# Altium integrated library Capacitors - Aluminum - Electrolytic SMT.IntLib: 1988 symbols (part 3 of 50)
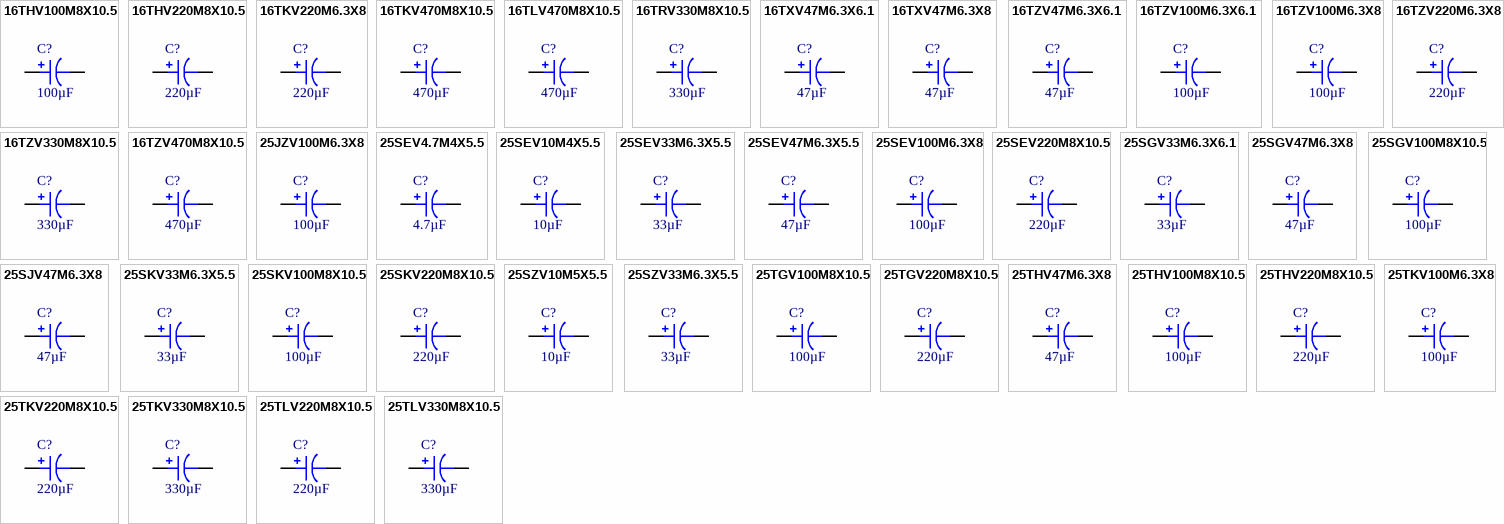
[diagram p51: symbols 16THV100M8X10.5 to 25TLV330M8X10.5]

## 16THV220M8X10.5
designator C?, comment 220µF
CAP ALUM 220UF 20% 16V SMD; Part Number: 16THV220M8X10.5; Manufacturer: Rubycon; ESR (Equivalent Series Resistance): 300mOhm @ 100kHz; Lifetime @ Temp.: 3000 Hrs @ 125°C; Polarization: Polar; Ripple Current @ High Frequency: 300mA @ 100kHz; Ripple Current @ Low Frequency: 180mA @ 120Hz; Surface Mount Land Size: 0.327" L x 0.327" W (8.30mm x 8.30mm); Applications: Automotive; Capacitance: 220µF; ComponentLink1Description: Datasheet; ComponentLink1URL: http://www.rubycon.co.jp/en/catalog/e_pdfs/aluminum/e_THV.pdf; ComponentLink2Description: DigiKey Link; ComponentLink2URL: http://digikey.com/product-detail/en/rubycon/16THV220M8X10.5/1189-4095-1-ND/9083624; Device Package: Radial, Can - SMD; Height - Seated (Max): 0.413" (10.50mm); LastUpdated: 9/2/2020 1:25:13 AM; Lifecycle Status: Active; Minimum Order: 1; Mounting Type: Surface Mount; Operating Temperature: -40°C ~ 125°C; Package / Case: Radial, Can - SMD; Packaging: TapeAndReel; PartId: 7808; Part Status: Active; Price: 0.32; Ratings: AEC-Q200; Series: THV; Size / Dimension: 0.315" Dia (8.00mm); Supplier 1: DigiKey; Supplier Part Number 1: 1189-4095-1-ND; Tolerance: ±20%; Value: 220µF; Voltage - Rated: 16V
footprint CAP ALSMD 8.3MM H10.5MM
pins: 1, 2

## 16TKV220M6.3X8
designator C?, comment 220µF
CAP ALUM 220UF 20% 16V SMD; Part Number: 16TKV220M6.3X8; Manufacturer: Rubycon; ESR (Equivalent Series Resistance): 160 mohm @ 100kHz; Lifetime @ Temp.: 2000 Hrs @ 105°C; Polarization: Polar; Ripple Current @ High Frequency: 600mA @ 100kHz; Ripple Current @ Low Frequency: 360mA @ 120Hz; Surface Mount Land Size: 0.260" L x 0.260" W (6.60mm x 6.60mm); Applications: Automotive; Capacitance: 220µF; ComponentLink1Description: Datasheet; ComponentLink1URL: http://www.rubycon.co.jp/en/catalog/e_pdfs/aluminum/e_TKV.pdf; ComponentLink2Description: DigiKey Link; ComponentLink2URL: http://digikey.com/product-detail/en/rubycon/16TKV220M6.3X8/1189-4097-1-ND/9083626; Device Package: Radial, Can - SMD; Height - Seated (Max): 0.315" (8.00mm); LastUpdated: 9/2/2020 1:25:37 AM; Lifecycle Status: Active; Minimum Order: 1; Mounting Type: Surface Mount; Operating Temperature: -55°C ~ 105°C; Package / Case: Radial, Can - SMD; Packaging: TapeAndReel; PartId: 8517; Part Status: Active; Price: 0.23; Ratings: AEC-Q200; Series: TKV; Size / Dimension: 0.248" Dia (6.30mm); Supplier 1: DigiKey; Supplier Part Number 1: 1189-4097-1-ND; Tolerance: ±20%; Value: 220µF; Voltage - Rated: 16V
footprint CAP ALSMD 6.6MM H8.0MM
pins: 1, 2

## 16TKV470M8X10.5
designator C?, comment 470µF
CAP ALUM 470UF 20% 16V SMD; Part Number: 16TKV470M8X10.5; Manufacturer: Rubycon; ESR (Equivalent Series Resistance): 80mOhm @ 100kHz; Lifetime @ Temp.: 2000 Hrs @ 105°C; Polarization: Polar; Ripple Current @ High Frequency: 850mA @ 100kHz; Ripple Current @ Low Frequency: 510mA @ 120Hz; Surface Mount Land Size: 0.327" L x 0.327" W (8.30mm x 8.30mm); Applications: Automotive; Capacitance: 470µF; ComponentLink1Description: Datasheet; ComponentLink1URL: http://www.rubycon.co.jp/en/catalog/e_pdfs/aluminum/e_TKV.pdf; ComponentLink2Description: DigiKey Link; ComponentLink2URL: http://digikey.com/product-detail/en/rubycon/16TKV470M8X10.5/1189-2067-1-ND/3986986; Device Package: Radial, Can - SMD; Height - Seated (Max): 0.413" (10.50mm); LastUpdated: 9/2/2020 1:25:16 AM; Lifecycle Status: Active; Minimum Order: 1; Mounting Type: Surface Mount; Operating Temperature: -55°C ~ 105°C; Package / Case: Radial, Can - SMD; Packaging: TapeAndReel; PartId: 7478; Part Status: Active; Price: 0.36; Ratings: AEC-Q200; Series: TKV; Size / Dimension: 0.315" Dia (8.00mm); Supplier 1: DigiKey; Supplier Part Number 1: 1189-2067-1-ND; Tolerance: ±20%; Value: 470µF; Voltage - Rated: 16V
footprint CAP ALSMD 8.3MM H10.5MM
pins: 1, 2

## 16TLV470M8X10.5
designator C?, comment 470µF
CAP ALUM 470UF 20% 16V SMD; Part Number: 16TLV470M8X10.5; Manufacturer: Rubycon; Impedance: 160 mOhms; Lifetime @ Temp.: 5000 Hrs @ 105°C; Polarization: Polar; Ripple Current @ High Frequency: 600mA @ 100kHz; Ripple Current @ Low Frequency: 360mA @ 120Hz; Surface Mount Land Size: 0.327" L x 0.327" W (8.30mm x 8.30mm); Applications: Automotive; Capacitance: 470µF; ComponentLink1Description: Datasheet; ComponentLink1URL: http://www.rubycon.co.jp/en/catalog/e_pdfs/aluminum/e_TLV.pdf; ComponentLink2Description: DigiKey Link; ComponentLink2URL: http://digikey.com/product-detail/en/rubycon/16TLV470M8X10.5/1189-2089-1-ND/3987008; Device Package: Radial, Can - SMD; Height - Seated (Max): 0.413" (10.50mm); LastUpdated: 9/2/2020 1:25:15 AM; Lifecycle Status: Active; Minimum Order: 1; Mounting Type: Surface Mount; Operating Temperature: -55°C ~ 105°C; Package / Case: Radial, Can - SMD; Packaging: TapeAndReel; PartId: 7618; Part Status: Active; Price: 0.26; Ratings: AEC-Q200; Series: TLV; Size / Dimension: 0.315" Dia (8.00mm); Supplier 1: DigiKey; Supplier Part Number 1: 1189-2089-1-ND; Tolerance: ±20%; Value: 470µF; Voltage - Rated: 16V
footprint CAP ALSMD 8.3MM H10.5MM
pins: 1, 2

## 16TRV330M8X10.5
designator C?, comment 330µF
CAP ALUM 330UF 20% 16V SMD; Part Number: 16TRV330M8X10.5; Manufacturer: Rubycon; Impedance: 150 mOhms; Lifetime @ Temp.: 8000 Hrs @ 105°C; Polarization: Polar; Ripple Current @ High Frequency: 600mA @ 100kHz; Ripple Current @ Low Frequency: 360mA @ 120Hz; Surface Mount Land Size: 0.327" L x 0.327" W (8.30mm x 8.30mm); Applications: General Purpose; Capacitance: 330µF; ComponentLink1Description: Datasheet; ComponentLink1URL: http://www.rubycon.co.jp/en/catalog/e_pdfs/aluminum/e_TRV.pdf; ComponentLink2Description: DigiKey Link; ComponentLink2URL: http://digikey.com/product-detail/en/rubycon/16TRV330M8X10.5/1189-3537-1-ND/6050527; Device Package: Radial, Can - SMD; Height - Seated (Max): 0.413" (10.50mm); LastUpdated: 9/2/2020 1:25:13 AM; Lifecycle Status: Active; Minimum Order: 1; Mounting Type: Surface Mount; Operating Temperature: -40°C ~ 105°C; Package / Case: Radial, Can - SMD; Packaging: TapeAndReel; PartId: 7733; Part Status: Active; Price: 0.29; Series: TRV; Size / Dimension: 0.315" Dia (8.00mm); Supplier 1: DigiKey; Supplier Part Number 1: 1189-3537-1-ND; Tolerance: ±20%; Value: 330µF; Voltage - Rated: 16V
footprint CAP ALSMD 8.3MM H10.5MM
pins: 1, 2

## 16TXV47M6.3X6.1
designator C?, comment 47µF
CAP ALUM 47UF 20% 16V SMD; Part Number: 16TXV47M6.3X6.1; Manufacturer: Rubycon; ESR (Equivalent Series Resistance): 1Ohm; Lifetime @ Temp.: 1000 Hrs @ 125°C; Ripple Current @ Low Frequency: 35mA @ 120Hz; Surface Mount Land Size: 0.260" L x 0.260" W (6.60mm x 6.60mm); Applications: Automotive; Capacitance: 47µF; ComponentLink1Description: Datasheet; ComponentLink1URL: http://www.rubycon.co.jp/en/catalog/e_pdfs/aluminum/e_txv.pdf; ComponentLink2Description: DigiKey Link; ComponentLink2URL: http://digikey.com/product-detail/en/rubycon/16TXV47M6.3X6.1/1189-2115-1-ND/3987034; Device Package: Radial, Can - SMD; Height - Seated (Max): 0.240" (6.10mm); LastUpdated: 9/2/2020 1:25:27 AM; Lifecycle Status: Active; Minimum Order: 1; Mounting Type: Surface Mount; Operating Temperature: -40°C ~ 125°C; Package / Case: Radial, Can - SMD; Packaging: TapeAndReel; PartId: 8100; Part Status: Active; Price: 0.15; Ratings: AEC-Q200; Series: TXV; Size / Dimension: 0.248" Dia (6.30mm); Supplier 1: DigiKey; Supplier Part Number 1: 1189-2115-1-ND; Tolerance: ±20%; Value: 47µF; Voltage - Rated: 16V
footprint CAP ALSMD 6.6MM H6.1MM
pins: 1, 2

## 16TXV47M6.3X8
designator C?, comment 47µF
CAP ALUM 47UF 20% 16V SMD; Part Number: 16TXV47M6.3X8; Manufacturer: Rubycon; ESR (Equivalent Series Resistance): 300mOhm; Lifetime @ Temp.: 1000 Hrs @ 125°C; Ripple Current @ High Frequency: 140mA @ 100kHz; Ripple Current @ Low Frequency: 70mA @ 120Hz; Surface Mount Land Size: 0.260" L x 0.260" W (6.60mm x 6.60mm); Applications: Automotive; Capacitance: 47µF; ComponentLink1Description: Datasheet; ComponentLink1URL: http://www.rubycon.co.jp/en/catalog/e_pdfs/aluminum/e_txv.pdf; ComponentLink2Description: DigiKey Link; ComponentLink2URL: http://digikey.com/product-detail/en/rubycon/16TXV47M6.3X8/1189-2116-1-ND/3987035; Device Package: Radial, Can - SMD; Height - Seated (Max): 0.315" (8.00mm); LastUpdated: 9/2/2020 1:25:38 AM; Lifecycle Status: Active; Minimum Order: 1; Mounting Type: Surface Mount; Operating Temperature: -40°C ~ 125°C; Package / Case: Radial, Can - SMD; Packaging: TapeAndReel; PartId: 8368; Part Status: Active; Price: 0.17; Ratings: AEC-Q200; Series: TXV; Size / Dimension: 0.248" Dia (6.30mm); Supplier 1: DigiKey; Supplier Part Number 1: 1189-2116-1-ND; Tolerance: ±20%; Value: 47µF; Voltage - Rated: 16V
footprint CAP ALSMD 6.6MM H8.0MM
pins: 1, 2

## 16TZV47M6.3X6.1
designator C?, comment 47µF
CAP ALUM 47UF 20% 16V SMD; Part Number: 16TZV47M6.3X6.1; Manufacturer: Rubycon; Impedance: 360 mOhms; Lifetime @ Temp.: 2000 Hrs @ 105°C; Polarization: Polar; Ripple Current @ High Frequency: 250mA @ 100kHz; Ripple Current @ Low Frequency: 80mA @ 120Hz; Surface Mount Land Size: 0.260" L x 0.260" W (6.60mm x 6.60mm); Applications: Automotive; Capacitance: 47µF; ComponentLink1Description: Datasheet; ComponentLink1URL: http://www.rubycon.co.jp/en/catalog/e_pdfs/aluminum/e_tzv.pdf; ComponentLink2Description: DigiKey Link; ComponentLink2URL: http://digikey.com/product-detail/en/rubycon/16TZV47M6.3X6.1/1189-1132-1-ND/3488241; Device Package: Radial, Can - SMD; Height - Seated (Max): 0.240" (6.10mm); LastUpdated: 9/2/2020 1:25:28 AM; Lifecycle Status: Active; Minimum Order: 1; Mounting Type: Surface Mount; Operating Temperature: -55°C ~ 105°C; Package / Case: Radial, Can - SMD; Packaging: TapeAndReel; PartId: 8027; Part Status: Active; Price: 0.11; Ratings: AEC-Q200; Series: TZV; Size / Dimension: 0.248" Dia (6.30mm); Supplier 1: DigiKey; Supplier Part Number 1: 1189-1132-1-ND; Tolerance: ±20%; Value: 47µF; Voltage - Rated: 16V
footprint CAP ALSMD 6.6MM H6.1MM
pins: 1, 2

## 16TZV100M6.3X6.1
designator C?, comment 100µF
CAP ALUM 100UF 20% 16V SMD; Part Number: 16TZV100M6.3X6.1; Manufacturer: Rubycon; Impedance: 360 mOhms; Lifetime @ Temp.: 2000 Hrs @ 105°C; Polarization: Polar; Ripple Current @ High Frequency: 250mA @ 100kHz; Ripple Current @ Low Frequency: 125mA @ 120Hz; Surface Mount Land Size: 0.260" L x 0.260" W (6.60mm x 6.60mm); Applications: Automotive; Capacitance: 100µF; ComponentLink1Description: Datasheet; ComponentLink1URL: http://www.rubycon.co.jp/en/catalog/e_pdfs/aluminum/e_tzv.pdf; ComponentLink2Description: DigiKey Link; ComponentLink2URL: http://digikey.com/product-detail/en/rubycon/16TZV100M6.3X6.1/1189-1536-1-ND/3134492; Device Package: Radial, Can - SMD; Height - Seated (Max): 0.240" (6.10mm); LastUpdated: 9/2/2020 1:25:26 AM; Lifecycle Status: Active; Minimum Order: 1; Mounting Type: Surface Mount; Operating Temperature: -55°C ~ 105°C; Package / Case: Radial, Can - SMD; Packaging: TapeAndReel; PartId: 8142; Part Status: Active; Price: 0.11; Ratings: AEC-Q200; Series: TZV; Size / Dimension: 0.248" Dia (6.30mm); Supplier 1: DigiKey; Supplier Part Number 1: 1189-1536-1-ND; Tolerance: ±20%; Value: 100µF; Voltage - Rated: 16V
footprint CAP ALSMD 6.6MM H6.1MM
pins: 1, 2

## 16TZV100M6.3X8
designator C?, comment 100µF
CAP ALUM 100UF 20% 16V SMD; Part Number: 16TZV100M6.3X8; Manufacturer: Rubycon; Impedance: 340 mOhms; Lifetime @ Temp.: 2000 Hrs @ 105°C; Polarization: Polar; Ripple Current @ High Frequency: 300mA @ 100kHz; Ripple Current @ Low Frequency: 150mA @ 120Hz; Surface Mount Land Size: 0.260" L x 0.260" W (6.60mm x 6.60mm); Applications: Automotive; Capacitance: 100µF; ComponentLink1Description: Datasheet; ComponentLink1URL: http://www.rubycon.co.jp/en/catalog/e_pdfs/aluminum/e_tzv.pdf; ComponentLink2Description: DigiKey Link; ComponentLink2URL: http://digikey.com/product-detail/en/rubycon/16TZV100M6.3X8/1189-2423-1-ND/4842327; Device Package: Radial, Can - SMD; Height - Seated (Max): 0.315" (8.00mm); LastUpdated: 9/2/2020 1:25:38 AM; Lifecycle Status: Active; Minimum Order: 1; Mounting Type: Surface Mount; Operating Temperature: -55°C ~ 105°C; Package / Case: Radial, Can - SMD; Packaging: TapeAndReel; PartId: 8420; Part Status: Active; Price: 0.13; Ratings: AEC-Q200; Series: TZV; Size / Dimension: 0.248" Dia (6.30mm); Supplier 1: DigiKey; Supplier Part Number 1: 1189-2423-1-ND; Tolerance: ±20%; Value: 100µF; Voltage - Rated: 16V
footprint CAP ALSMD 6.6MM H8.0MM
pins: 1, 2

## 16TZV220M6.3X8
designator C?, comment 220µF
CAP ALUM 220UF 20% 16V SMD; Part Number: 16TZV220M6.3X8; Manufacturer: Rubycon; Impedance: 340 mOhms; Lifetime @ Temp.: 2000 Hrs @ 105°C; Polarization: Polar; Ripple Current @ High Frequency: 300mA @ 100kHz; Ripple Current @ Low Frequency: 180mA @ 120Hz; Surface Mount Land Size: 0.260" L x 0.260" W (6.60mm x 6.60mm); Applications: Automotive; Capacitance: 220µF; ComponentLink1Description: Datasheet; ComponentLink1URL: http://www.rubycon.co.jp/en/catalog/e_pdfs/aluminum/e_tzv.pdf; ComponentLink2Description: DigiKey Link; ComponentLink2URL: http://digikey.com/product-detail/en/rubycon/16TZV220M6.3X8/1189-1538-1-ND/3134494; Device Package: Radial, Can - SMD; Height - Seated (Max): 0.315" (8.00mm); LastUpdated: 9/2/2020 1:25:39 AM; Lifecycle Status: Active; Minimum Order: 1; Mounting Type: Surface Mount; Operating Temperature: -55°C ~ 105°C; Package / Case: Radial, Can - SMD; Packaging: TapeAndReel; PartId: 8341; Part Status: Active; Price: 0.14; Ratings: AEC-Q200; Series: TZV; Size / Dimension: 0.248" Dia (6.30mm); Supplier 1: DigiKey; Supplier Part Number 1: 1189-1538-1-ND; Tolerance: ±20%; Value: 220µF; Voltage - Rated: 16V
footprint CAP ALSMD 6.6MM H8.0MM
pins: 1, 2

## 16TZV330M8X10.5
designator C?, comment 330µF
CAP ALUM 330UF 20% 16V SMD; Part Number: 16TZV330M8X10.5; Manufacturer: Rubycon; Impedance: 160 mOhms; Lifetime @ Temp.: 2000 Hrs @ 105°C; Polarization: Polar; Ripple Current @ High Frequency: 600mA @ 100kHz; Ripple Current @ Low Frequency: 360mA @ 120Hz; Surface Mount Land Size: 0.327" L x 0.327" W (8.30mm x 8.30mm); Applications: Automotive; Capacitance: 330µF; ComponentLink1Description: Datasheet; ComponentLink1URL: http://www.rubycon.co.jp/en/catalog/e_pdfs/aluminum/e_tzv.pdf; ComponentLink2Description: DigiKey Link; ComponentLink2URL: http://digikey.com/product-detail/en/rubycon/16TZV330M8X10.5/1189-1541-1-ND/3134497; Device Package: Radial, Can - SMD; Height - Seated (Max): 0.413" (10.50mm); LastUpdated: 9/2/2020 1:25:14 AM; Lifecycle Status: Active; Minimum Order: 1; Mounting Type: Surface Mount; Operating Temperature: -55°C ~ 105°C; Package / Case: Radial, Can - SMD; Packaging: TapeAndReel; PartId: 7652; Part Status: Active; Price: 0.21; Ratings: AEC-Q200; Series: TZV; Size / Dimension: 0.315" Dia (8.00mm); Supplier 1: DigiKey; Supplier Part Number 1: 1189-1541-1-ND; Tolerance: ±20%; Value: 330µF; Voltage - Rated: 16V
footprint CAP ALSMD 8.3MM H10.5MM
pins: 1, 2

## 16TZV470M8X10.5
designator C?, comment 470µF
CAP ALUM 470UF 20% 16V SMD; Part Number: 16TZV470M8X10.5; Manufacturer: Rubycon; Impedance: 160 mOhms; Lifetime @ Temp.: 2000 Hrs @ 105°C; Polarization: Polar; Ripple Current @ High Frequency: 600mA @ 100kHz; Ripple Current @ Low Frequency: 360mA @ 120Hz; Surface Mount Land Size: 0.327" L x 0.327" W (8.30mm x 8.30mm); Applications: Automotive; Capacitance: 470µF; ComponentLink1Description: Datasheet; ComponentLink1URL: http://www.rubycon.co.jp/en/catalog/e_pdfs/aluminum/e_tzv.pdf; ComponentLink2Description: DigiKey Link; ComponentLink2URL: http://digikey.com/product-detail/en/rubycon/16TZV470M8X10.5/1189-1543-1-ND/3134499; Device Package: Radial, Can - SMD; Height - Seated (Max): 0.413" (10.50mm); LastUpdated: 9/2/2020 1:25:15 AM; Lifecycle Status: Active; Minimum Order: 1; Mounting Type: Surface Mount; Operating Temperature: -55°C ~ 105°C; Package / Case: Radial, Can - SMD; Packaging: TapeAndReel; PartId: 7572; Part Status: Active; Price: 0.21; Ratings: AEC-Q200; Series: TZV; Size / Dimension: 0.315" Dia (8.00mm); Supplier 1: DigiKey; Supplier Part Number 1: 1189-1543-1-ND; Tolerance: ±20%; Value: 470µF; Voltage - Rated: 16V
footprint CAP ALSMD 8.3MM H10.5MM
pins: 1, 2

## 25JZV100M6.3X8
designator C?, comment 100µF
CAP ALUM 100UF 20% 25V SMD; Part Number: 25JZV100M6.3X8; Manufacturer: Rubycon; Impedance: 340 mOhms; Lifetime @ Temp.: 2000 Hrs @ 105°C; Polarization: Polar; Ripple Current @ High Frequency: 300mA @ 100kHz; Ripple Current @ Low Frequency: 150mA @ 120Hz; Surface Mount Land Size: 0.260" L x 0.260" W (6.60mm x 6.60mm); Applications: Automotive, High Temperature Reflow; Capacitance: 100µF; ComponentLink1Description: Datasheet; ComponentLink1URL: http://www.rubycon.co.jp/en/catalog/e_pdfs/aluminum/e_jzv.pdf; ComponentLink2Description: DigiKey Link; ComponentLink2URL: http://digikey.com/product-detail/en/rubycon/25JZV100M6.3X8/1189-2425-1-ND/4842329; Device Package: Radial, Can - SMD; Height - Seated (Max): 0.315" (8.00mm); LastUpdated: 9/2/2020 1:25:38 AM; Lifecycle Status: Active; Minimum Order: 1; Mounting Type: Surface Mount; Operating Temperature: -55°C ~ 105°C; Package / Case: Radial, Can - SMD; Packaging: TapeAndReel; PartId: 8359; Part Status: Active; Price: 0.17; Ratings: AEC-Q200; Series: JZV; Size / Dimension: 0.248" Dia (6.30mm); Supplier 1: DigiKey; Supplier Part Number 1: 1189-2425-1-ND; Tolerance: ±20%; Value: 100µF; Voltage - Rated: 25V
footprint CAP ALSMD 6.6MM H8.0MM
pins: 1, 2

## 25SEV4.7M4X5.5
designator C?, comment 4.7µF
CAP ALUM 4.7UF 20% 25V SMD; Part Number: 25SEV4.7M4X5.5; Manufacturer: Rubycon; Lifetime @ Temp.: 2000 Hrs @ 85°C; Polarization: Polar; Ripple Current @ High Frequency: 27mA @ 10kHz; Ripple Current @ Low Frequency: 18mA @ 120Hz; Surface Mount Land Size: 0.169" L x 0.169" W (4.30mm x 4.30mm); Applications: Automotive; Capacitance: 4.7µF; ComponentLink1Description: Datasheet; ComponentLink1URL: http://www.rubycon.co.jp/en/catalog/e_pdfs/aluminum/e_sev.pdf; ComponentLink2Description: DigiKey Link; ComponentLink2URL: http://digikey.com/product-detail/en/rubycon/25SEV4.7M4X5.5/1189-2432-1-ND/4842336; Device Package: Radial, Can - SMD; Height - Seated (Max): 0.217" (5.50mm); LastUpdated: 9/2/2020 1:23:46 AM; Lifecycle Status: Active; Minimum Order: 1; Mounting Type: Surface Mount; Operating Temperature: -40°C ~ 85°C; Package / Case: Radial, Can - SMD; Packaging: TapeAndReel; PartId: 7326; Part Status: Active; Price: 0.10; Ratings: AEC-Q200; Series: SEV; Size / Dimension: 0.157" Dia (4.00mm); Supplier 1: DigiKey; Supplier Part Number 1: 1189-2432-1-ND; Tolerance: ±20%; Value: 4.7µF; Voltage - Rated: 25V
footprint CAP ALSMD POLY 4.3MM H5.5MM
pins: 1, 2

## 25SEV10M4X5.5
designator C?, comment 10µF
CAP ALUM 10UF 20% 25V SMD; Part Number: 25SEV10M4X5.5; Manufacturer: Rubycon; Lifetime @ Temp.: 2000 Hrs @ 85°C; Polarization: Polar; Ripple Current @ High Frequency: 37.5mA @ 10kHz; Ripple Current @ Low Frequency: 25mA @ 120Hz; Surface Mount Land Size: 0.169" L x 0.169" W (4.30mm x 4.30mm); Applications: Automotive; Capacitance: 10µF; ComponentLink1Description: Datasheet; ComponentLink1URL: http://www.rubycon.co.jp/en/catalog/e_pdfs/aluminum/e_sev.pdf; ComponentLink2Description: DigiKey Link; ComponentLink2URL: http://digikey.com/product-detail/en/rubycon/25SEV10M4X5.5/1189-2428-1-ND/4842332; Device Package: Radial, Can - SMD; Height - Seated (Max): 0.217" (5.50mm); LastUpdated: 9/2/2020 1:23:46 AM; Lifecycle Status: Active; Minimum Order: 1; Mounting Type: Surface Mount; Operating Temperature: -40°C ~ 85°C; Package / Case: Radial, Can - SMD; Packaging: TapeAndReel; PartId: 7327; Part Status: Active; Price: 0.10; Ratings: AEC-Q200; Series: SEV; Size / Dimension: 0.157" Dia (4.00mm); Supplier 1: DigiKey; Supplier Part Number 1: 1189-2428-1-ND; Tolerance: ±20%; Value: 10µF; Voltage - Rated: 25V
footprint CAP ALSMD POLY 4.3MM H5.5MM
pins: 1, 2

## 25SEV33M6.3X5.5
designator C?, comment 33µF
CAP ALUM 33UF 20% 25V SMD; Part Number: 25SEV33M6.3X5.5; Manufacturer: Rubycon; Lifetime @ Temp.: 2000 Hrs @ 85°C; Polarization: Polar; Ripple Current @ High Frequency: 81mA @ 10kHz; Ripple Current @ Low Frequency: 54mA @ 120Hz; Surface Mount Land Size: 0.260" L x 0.260" W (6.60mm x 6.60mm); Applications: Automotive; Capacitance: 33µF; ComponentLink1Description: Datasheet; ComponentLink1URL: http://www.rubycon.co.jp/en/catalog/e_pdfs/aluminum/e_sev.pdf; ComponentLink2Description: DigiKey Link; ComponentLink2URL: http://digikey.com/product-detail/en/rubycon/25SEV33M6.3X5.5/1189-2431-1-ND/4842335; Device Package: Radial, Can - SMD; Height - Seated (Max): 0.217" (5.50mm); LastUpdated: 9/2/2020 1:18:39 AM; Lifecycle Status: Active; Minimum Order: 1; Mounting Type: Surface Mount; Operating Temperature: -40°C ~ 85°C; Package / Case: Radial, Can - SMD; Packaging: TapeAndReel; PartId: 8969; Part Status: Active; Price: 0.13; Ratings: AEC-Q200; Series: SEV; Size / Dimension: 0.248" Dia (6.30mm); Supplier 1: DigiKey; Supplier Part Number 1: 1189-2431-1-ND; Tolerance: ±20%; Value: 33µF; Voltage - Rated: 25V
footprint CAP ALSMD 6.6MM H6.1MM
pins: 1, 2

## 25SEV47M6.3X5.5
designator C?, comment 47µF
CAP ALUM 47UF 20% 25V SMD; Part Number: 25SEV47M6.3X5.5; Manufacturer: Rubycon; Lifetime @ Temp.: 2000 Hrs @ 85°C; Polarization: Polar; Ripple Current @ High Frequency: 90mA @ 10kHz; Ripple Current @ Low Frequency: 60mA @ 120Hz; Surface Mount Land Size: 0.260" L x 0.260" W (6.60mm x 6.60mm); Applications: Automotive; Capacitance: 47µF; ComponentLink1Description: Datasheet; ComponentLink1URL: http://www.rubycon.co.jp/en/catalog/e_pdfs/aluminum/e_sev.pdf; ComponentLink2Description: DigiKey Link; ComponentLink2URL: http://digikey.com/product-detail/en/rubycon/25SEV47M6.3X5.5/1189-2433-1-ND/4842337; Device Package: Radial, Can - SMD; Height - Seated (Max): 0.217" (5.50mm); LastUpdated: 9/2/2020 1:18:40 AM; Lifecycle Status: Active; Minimum Order: 1; Mounting Type: Surface Mount; Operating Temperature: -40°C ~ 85°C; Package / Case: Radial, Can - SMD; Packaging: TapeAndReel; PartId: 9068; Part Status: Active; Price: 0.09; Ratings: AEC-Q200; Series: SEV; Size / Dimension: 0.248" Dia (6.30mm); Supplier 1: DigiKey; Supplier Part Number 1: 1189-2433-1-ND; Tolerance: ±20%; Value: 47µF; Voltage - Rated: 25V
footprint CAP ALSMD 6.6MM H6.1MM
pins: 1, 2

## 25SEV100M6.3X8
designator C?, comment 100µF
CAP ALUM 100UF 20% 25V SMD; Part Number: 25SEV100M6.3X8; Manufacturer: Rubycon; Lifetime @ Temp.: 2000 Hrs @ 85°C; Polarization: Polar; Ripple Current @ High Frequency: 174mA @ 10kHz; Ripple Current @ Low Frequency: 145mA @ 120Hz; Surface Mount Land Size: 0.260" L x 0.260" W (6.60mm x 6.60mm); Applications: Automotive; Capacitance: 100µF; ComponentLink1Description: Datasheet; ComponentLink1URL: http://www.rubycon.co.jp/en/catalog/e_pdfs/aluminum/e_sev.pdf; ComponentLink2Description: DigiKey Link; ComponentLink2URL: http://digikey.com/product-detail/en/rubycon/25SEV100M6.3X8/1189-2426-1-ND/4842330; Device Package: Radial, Can - SMD; Height - Seated (Max): 0.315" (8.00mm); LastUpdated: 9/2/2020 1:25:38 AM; Lifecycle Status: Active; Minimum Order: 1; Mounting Type: Surface Mount; Operating Temperature: -40°C ~ 85°C; Package / Case: Radial, Can - SMD; Packaging: TapeAndReel; PartId: 8367; Part Status: Active; Price: 0.16; Ratings: AEC-Q200; Series: SEV; Size / Dimension: 0.248" Dia (6.30mm); Supplier 1: DigiKey; Supplier Part Number 1: 1189-2426-1-ND; Tolerance: ±20%; Value: 100µF; Voltage - Rated: 25V
footprint CAP ALSMD 6.6MM H8.0MM
pins: 1, 2

## 25SEV220M8X10.5
designator C?, comment 220µF
CAP ALUM 220UF 20% 25V SMD; Part Number: 25SEV220M8X10.5; Manufacturer: Rubycon; Lifetime @ Temp.: 2000 Hrs @ 85°C; Polarization: Polar; Ripple Current @ High Frequency: 360mA @ 10kHz; Ripple Current @ Low Frequency: 300mA @ 120Hz; Surface Mount Land Size: 0.327" L x 0.327" W (8.30mm x 8.30mm); Applications: Automotive; Capacitance: 220µF; ComponentLink1Description: Datasheet; ComponentLink1URL: http://www.rubycon.co.jp/en/catalog/e_pdfs/aluminum/e_sev.pdf; ComponentLink2Description: DigiKey Link; ComponentLink2URL: http://digikey.com/product-detail/en/rubycon/25SEV220M8X10.5/1189-2429-1-ND/4842333; Device Package: Radial, Can - SMD; Height - Seated (Max): 0.413" (10.50mm); LastUpdated: 9/2/2020 1:25:14 AM; Lifecycle Status: Active; Minimum Order: 1; Mounting Type: Surface Mount; Operating Temperature: -40°C ~ 85°C; Package / Case: Radial, Can - SMD; Packaging: TapeAndReel; PartId: 7641; Part Status: Active; Price: 0.26; Ratings: AEC-Q200; Series: SEV; Size / Dimension: 0.315" Dia (8.00mm); Supplier 1: DigiKey; Supplier Part Number 1: 1189-2429-1-ND; Tolerance: ±20%; Value: 220µF; Voltage - Rated: 25V
footprint CAP ALSMD 8.3MM H10.5MM
pins: 1, 2

## 25SGV33M6.3X6.1
designator C?, comment 33µF
CAP ALUM 33UF 20% 25V SMD; Part Number: 25SGV33M6.3X6.1; Manufacturer: Rubycon; Lifetime @ Temp.: 2000 Hrs @ 105°C; Polarization: Polar; Ripple Current @ High Frequency: 97.5mA @ 10kHz; Ripple Current @ Low Frequency: 65mA @ 120Hz; Surface Mount Land Size: 0.260" L x 0.260" W (6.60mm x 6.60mm); Applications: Automotive; Capacitance: 33µF; ComponentLink1Description: Datasheet; ComponentLink1URL: http://www.rubycon.co.jp/en/catalog/e_pdfs/aluminum/e_sgv.pdf; ComponentLink2Description: DigiKey Link; ComponentLink2URL: http://digikey.com/product-detail/en/rubycon/25SGV33M6.3X6.1/1189-2436-1-ND/4842340; Device Package: Radial, Can - SMD; Height - Seated (Max): 0.240" (6.10mm); LastUpdated: 9/2/2020 1:25:27 AM; Lifecycle Status: Active; Minimum Order: 1; Mounting Type: Surface Mount; Operating Temperature: -55°C ~ 105°C; Package / Case: Radial, Can - SMD; Packaging: TapeAndReel; PartId: 8090; Part Status: Active; Price: 0.13; Ratings: AEC-Q200; Series: SGV; Size / Dimension: 0.248" Dia (6.30mm); Supplier 1: DigiKey; Supplier Part Number 1: 1189-2436-1-ND; Tolerance: ±20%; Value: 33µF; Voltage - Rated: 25V
footprint CAP ALSMD 6.6MM H6.1MM
pins: 1, 2

## 25SGV47M6.3X8
designator C?, comment 47µF
CAP ALUM 47UF 20% 25V SMD; Part Number: 25SGV47M6.3X8; Manufacturer: Rubycon; Lifetime @ Temp.: 2000 Hrs @ 105°C; Polarization: Polar; Ripple Current @ High Frequency: 118.5mA @ 10kHz; Ripple Current @ Low Frequency: 79mA @ 120Hz; Surface Mount Land Size: 0.260" L x 0.260" W (6.60mm x 6.60mm); Applications: Automotive; Capacitance: 47µF; ComponentLink1Description: Datasheet; ComponentLink1URL: http://www.rubycon.co.jp/en/catalog/e_pdfs/aluminum/e_sgv.pdf; ComponentLink2Description: DigiKey Link; ComponentLink2URL: http://digikey.com/product-detail/en/rubycon/25SGV47M6.3X8/1189-4099-1-ND/9083628; Device Package: Radial, Can - SMD; Height - Seated (Max): 0.315" (8.00mm); LastUpdated: 9/2/2020 1:25:37 AM; Lifecycle Status: Active; Minimum Order: 1; Mounting Type: Surface Mount; Operating Temperature: -55°C ~ 105°C; Package / Case: Radial, Can - SMD; Packaging: TapeAndReel; PartId: 8485; Part Status: Active; Price: 0.16; Ratings: AEC-Q200; Series: SGV; Size / Dimension: 0.248" Dia (6.30mm); Supplier 1: DigiKey; Supplier Part Number 1: 1189-4099-1-ND; Tolerance: ±20%; Value: 47µF; Voltage - Rated: 25V
footprint CAP ALSMD 6.6MM H8.0MM
pins: 1, 2

## 25SGV100M8X10.5
designator C?, comment 100µF
CAP ALUM 100UF 20% 25V SMD; Part Number: 25SGV100M8X10.5; Manufacturer: Rubycon; Lifetime @ Temp.: 2000 Hrs @ 105°C; Polarization: Polar; Ripple Current @ High Frequency: 216mA @ 10kHz; Ripple Current @ Low Frequency: 180mA @ 120Hz; Surface Mount Land Size: 0.327" L x 0.327" W (8.30mm x 8.30mm); Applications: Automotive; Capacitance: 100µF; ComponentLink1Description: Datasheet; ComponentLink1URL: http://www.rubycon.co.jp/en/catalog/e_pdfs/aluminum/e_sgv.pdf; ComponentLink2Description: DigiKey Link; ComponentLink2URL: http://digikey.com/product-detail/en/rubycon/25SGV100M8X10.5/1189-4098-1-ND/9083627; Device Package: Radial, Can - SMD; Height - Seated (Max): 0.413" (10.50mm); LastUpdated: 9/2/2020 1:25:13 AM; Lifecycle Status: Active; Minimum Order: 1; Mounting Type: Surface Mount; Operating Temperature: -55°C ~ 105°C; Package / Case: Radial, Can - SMD; Packaging: TapeAndReel; PartId: 7803; Part Status: Active; Price: 0.25; Ratings: AEC-Q200; Series: SGV; Size / Dimension: 0.315" Dia (8.00mm); Supplier 1: DigiKey; Supplier Part Number 1: 1189-4098-1-ND; Tolerance: ±20%; Value: 100µF; Voltage - Rated: 25V
footprint CAP ALSMD 8.3MM H10.5MM
pins: 1, 2

## 25SJV47M6.3X8
designator C?, comment 47µF
CAP ALUM 47UF 20% 25V SMD; Part Number: 25SJV47M6.3X8; Manufacturer: Rubycon; Lifetime @ Temp.: 3000 Hrs @ 105°C; Polarization: Polar; Ripple Current @ High Frequency: 94.5mA @ 10kHz; Ripple Current @ Low Frequency: 63mA @ 120Hz; Surface Mount Land Size: 0.260" L x 0.260" W (6.60mm x 6.60mm); Applications: General Purpose; Capacitance: 47µF; ComponentLink1Description: Datasheet; ComponentLink1URL: http://www.rubycon.co.jp/en/catalog/e_pdfs/aluminum/e_SJV.pdf; ComponentLink2Description: DigiKey Link; ComponentLink2URL: http://digikey.com/product-detail/en/rubycon/25SJV47M6.3X8/1189-2439-1-ND/4842343; Device Package: Radial, Can - SMD; Height - Seated (Max): 0.315" (8.00mm); LastUpdated: 9/2/2020 1:25:38 AM; Lifecycle Status: Active; Minimum Order: 1; Mounting Type: Surface Mount; Operating Temperature: -40°C ~ 105°C; Package / Case: Radial, Can - SMD; Packaging: TapeAndReel; PartId: 8424; Part Status: Active; Price: 0.19; Series: SJV; Size / Dimension: 0.248" Dia (6.30mm); Supplier 1: DigiKey; Supplier Part Number 1: 1189-2439-1-ND; Tolerance: ±20%; Value: 47µF; Voltage - Rated: 25V
footprint CAP ALSMD 6.6MM H8.0MM
pins: 1, 2

## 25SKV33M6.3X5.5
designator C?, comment 33µF
CAP ALUM 33UF 20% 25V SMD; Part Number: 25SKV33M6.3X5.5; Manufacturer: Rubycon; Lifetime @ Temp.: 1000 Hrs @ 105°C; Polarization: Polar; Ripple Current @ Low Frequency: 48mA @ 120Hz; Surface Mount Land Size: 0.260" L x 0.260" W (6.60mm x 6.60mm); Applications: General Purpose; Capacitance: 33µF; ComponentLink1Description: Datasheet; ComponentLink1URL: http://www.rubycon.co.jp/en/catalog/e_pdfs/aluminum/e_SKV.pdf; ComponentLink2Description: DigiKey Link; ComponentLink2URL: http://digikey.com/product-detail/en/rubycon/25SKV33M6.3X5.5/1189-3084-1-ND/6050386; Device Package: Radial, Can - SMD; Height - Seated (Max): 0.217" (5.50mm); LastUpdated: 9/2/2020 1:18:39 AM; Lifecycle Status: Active; Minimum Order: 1; Mounting Type: Surface Mount; Operating Temperature: -55°C ~ 105°C; Package / Case: Radial, Can - SMD; Packaging: TapeAndReel; PartId: 9010; Part Status: Active; Price: 0.11; Series: SKV; Size / Dimension: 0.248" Dia (6.30mm); Supplier 1: DigiKey; Supplier Part Number 1: 1189-3084-1-ND; Tolerance: ±20%; Value: 33µF; Voltage - Rated: 25V
footprint CAP ALSMD 6.6MM H6.1MM
pins: 1, 2

## 25SKV100M8X10.5
designator C?, comment 100µF
CAP ALUM 100UF 20% 25V SMD; Part Number: 25SKV100M8X10.5; Manufacturer: Rubycon; Lifetime @ Temp.: 1000 Hrs @ 105°C; Polarization: Polar; Ripple Current @ High Frequency: 216mA @ 10kHz; Ripple Current @ Low Frequency: 180mA @ 120Hz; Surface Mount Land Size: 0.327" L x 0.327" W (8.30mm x 8.30mm); Applications: General Purpose; Capacitance: 100µF; ComponentLink1Description: Datasheet; ComponentLink1URL: http://www.rubycon.co.jp/en/catalog/e_pdfs/aluminum/e_SKV.pdf; ComponentLink2Description: DigiKey Link; ComponentLink2URL: http://digikey.com/product-detail/en/rubycon/25SKV100M8X10.5/1189-3080-1-ND/6050382; Device Package: Radial, Can - SMD; Height - Seated (Max): 0.413" (10.50mm); LastUpdated: 9/2/2020 1:25:16 AM; Lifecycle Status: Active; Minimum Order: 1; Mounting Type: Surface Mount; Operating Temperature: -55°C ~ 105°C; Package / Case: Radial, Can - SMD; Packaging: TapeAndReel; PartId: 7503; Part Status: Active; Price: 0.22; Series: SKV; Size / Dimension: 0.315" Dia (8.00mm); Supplier 1: DigiKey; Supplier Part Number 1: 1189-3080-1-ND; Tolerance: ±20%; Value: 100µF; Voltage - Rated: 25V
footprint CAP ALSMD 8.3MM H10.5MM
pins: 1, 2

## 25SKV220M8X10.5
designator C?, comment 220µF
CAP ALUM 220UF 20% 25V SMD; Part Number: 25SKV220M8X10.5; Manufacturer: Rubycon; Lifetime @ Temp.: 1000 Hrs @ 105°C; Polarization: Polar; Ripple Current @ High Frequency: 228mA @ 10kHz; Ripple Current @ Low Frequency: 190mA @ 120Hz; Surface Mount Land Size: 0.327" L x 0.327" W (8.30mm x 8.30mm); Applications: General Purpose; Capacitance: 220µF; ComponentLink1Description: Datasheet; ComponentLink1URL: http://www.rubycon.co.jp/en/catalog/e_pdfs/aluminum/e_SKV.pdf; ComponentLink2Description: DigiKey Link; ComponentLink2URL: http://digikey.com/product-detail/en/rubycon/25SKV220M8X10.5/1189-3082-1-ND/6050384; Device Package: Radial, Can - SMD; Height - Seated (Max): 0.413" (10.50mm); LastUpdated: 9/2/2020 1:25:14 AM; Lifecycle Status: Active; Minimum Order: 1; Mounting Type: Surface Mount; Operating Temperature: -55°C ~ 105°C; Package / Case: Radial, Can - SMD; Packaging: TapeAndReel; PartId: 7651; Part Status: Active; Price: 0.22; Series: SKV; Size / Dimension: 0.315" Dia (8.00mm); Supplier 1: DigiKey; Supplier Part Number 1: 1189-3082-1-ND; Tolerance: ±20%; Value: 220µF; Voltage - Rated: 25V
footprint CAP ALSMD 8.3MM H10.5MM
pins: 1, 2

## 25SZV10M5X5.5
designator C?, comment 10µF
CAP ALUM 10UF 20% 25V SMD; Part Number: 25SZV10M5X5.5; Manufacturer: Rubycon; Lifetime @ Temp.: 1000 Hrs @ 105°C; Polarization: Polar; Surface Mount Land Size: 0.209" L x 0.209" W (5.30mm x 5.30mm); Applications: General Purpose; Capacitance: 10µF; ComponentLink1Description: Datasheet; ComponentLink1URL: //media.digikey.com/pdf/Data%20Sheets/Rubycon%20PDFs/SZV_Series.pdf; ComponentLink2Description: DigiKey Link; ComponentLink2URL: http://digikey.com/product-detail/en/rubycon/25SZV10M5X5.5/1189-2440-1-ND/4842344; Device Package: Radial, Can - SMD; Height - Seated (Max): 0.217" (5.50mm); LastUpdated: 9/2/2020 1:25:24 AM; Lifecycle Status: Active; Minimum Order: 1; Mounting Type: Surface Mount; Operating Temperature: -55°C ~ 105°C; Package / Case: Radial, Can - SMD; Packaging: TapeAndReel; PartId: 7827; Part Status: Active; Price: 0.12; Series: SZV; Size / Dimension: 0.197" Dia (5.00mm); Supplier 1: DigiKey; Supplier Part Number 1: 1189-2440-1-ND; Tolerance: ±20%; Value: 10µF; Voltage - Rated: 25V
footprint CAP ALSMD 5.3MM H5.4MM
pins: 1, 2

## 25SZV33M6.3X5.5
designator C?, comment 33µF
CAP ALUM 33UF 20% 25V SMD; Part Number: 25SZV33M6.3X5.5; Manufacturer: Rubycon; Impedance: 1 Ohms; Lifetime @ Temp.: 1000 Hrs @ 105°C; Polarization: Polar; Ripple Current @ High Frequency: 140mA @ 100kHz; Ripple Current @ Low Frequency: 77mA @ 120Hz; Surface Mount Land Size: 0.260" L x 0.260" W (6.60mm x 6.60mm); Applications: General Purpose; Capacitance: 33µF; ComponentLink1Description: Datasheet; ComponentLink1URL: //media.digikey.com/pdf/Data%20Sheets/Rubycon%20PDFs/SZV_Series.pdf; ComponentLink2Description: DigiKey Link; ComponentLink2URL: http://digikey.com/product-detail/en/rubycon/25SZV33M6.3X5.5/1189-2441-1-ND/4842345; Device Package: Radial, Can - SMD; Height - Seated (Max): 0.217" (5.50mm); LastUpdated: 9/2/2020 1:18:40 AM; Lifecycle Status: Active; Minimum Order: 1; Mounting Type: Surface Mount; Operating Temperature: -55°C ~ 105°C; Package / Case: Radial, Can - SMD; Packaging: TapeAndReel; PartId: 9051; Part Status: Active; Price: 0.14; Series: SZV; Size / Dimension: 0.248" Dia (6.30mm); Supplier 1: DigiKey; Supplier Part Number 1: 1189-2441-1-ND; Tolerance: ±20%; Value: 33µF; Voltage - Rated: 25V
footprint CAP ALSMD 6.6MM H6.1MM
pins: 1, 2

## 25TGV100M8X10.5
designator C?, comment 100µF
CAP ALUM 100UF 20% 25V SMD; Part Number: 25TGV100M8X10.5; Manufacturer: Rubycon; ESR (Equivalent Series Resistance): 150mOhm @ 100kHz; Lifetime @ Temp.: 3000 Hrs @ 125°C; Polarization: Polar; Ripple Current @ High Frequency: 350mA @ 100kHz; Ripple Current @ Low Frequency: 175mA @ 120Hz; Surface Mount Land Size: 0.327" L x 0.327" W (8.30mm x 8.30mm); Applications: Automotive; Capacitance: 100µF; ComponentLink1Description: Datasheet; ComponentLink1URL: http://www.rubycon.co.jp/en/catalog/e_pdfs/aluminum/e_TGV.pdf; ComponentLink2Description: DigiKey Link; ComponentLink2URL: http://digikey.com/product-detail/en/rubycon/25TGV100M8X10.5/1189-4141-1-ND/9083597; Device Package: Radial, Can - SMD; Height - Seated (Max): 0.413" (10.50mm); LastUpdated: 9/2/2020 1:25:14 AM; Lifecycle Status: Active; Minimum Order: 1; Mounting Type: Surface Mount; Operating Temperature: -40°C ~ 125°C; Package / Case: Radial, Can - SMD; Packaging: TapeAndReel; PartId: 7661; Part Status: Active; Price: 0.34; Ratings: AEC-Q200; Series: TGV; Size / Dimension: 0.315" Dia (8.00mm); Supplier 1: DigiKey; Supplier Part Number 1: 1189-4141-1-ND; Tolerance: ±20%; Value: 100µF; Voltage - Rated: 25V
footprint CAP ALSMD 8.3MM H10.5MM
pins: 1, 2

## 25TGV220M8X10.5
designator C?, comment 220µF
CAP ALUM 220UF 20% 25V SMD; Part Number: 25TGV220M8X10.5; Manufacturer: Rubycon; ESR (Equivalent Series Resistance): 150mOhm @ 100kHz; Lifetime @ Temp.: 3000 Hrs @ 125°C; Polarization: Polar; Ripple Current @ High Frequency: 350mA @ 100kHz; Ripple Current @ Low Frequency: 210mA @ 120Hz; Surface Mount Land Size: 0.327" L x 0.327" W (8.30mm x 8.30mm); Applications: Automotive; Capacitance: 220µF; ComponentLink1Description: Datasheet; ComponentLink1URL: http://www.rubycon.co.jp/en/catalog/e_pdfs/aluminum/e_TGV.pdf; ComponentLink2Description: DigiKey Link; ComponentLink2URL: http://digikey.com/product-detail/en/rubycon/25TGV220M8X10.5/1189-2691-1-ND/5027746; Device Package: Radial, Can - SMD; Height - Seated (Max): 0.413" (10.50mm); LastUpdated: 9/2/2020 1:25:14 AM; Lifecycle Status: Active; Minimum Order: 1; Mounting Type: Surface Mount; Operating Temperature: -40°C ~ 125°C; Package / Case: Radial, Can - SMD; Packaging: TapeAndReel; PartId: 7665; Part Status: Active; Price: 0.39; Ratings: AEC-Q200; Series: TGV; Size / Dimension: 0.315" Dia (8.00mm); Supplier 1: DigiKey; Supplier Part Number 1: 1189-2691-1-ND; Tolerance: ±20%; Value: 220µF; Voltage - Rated: 25V
footprint CAP ALSMD 8.3MM H10.5MM
pins: 1, 2

## 25THV47M6.3X8
designator C?, comment 47µF
CAP ALUM 47UF 20% 25V SMD; Part Number: 25THV47M6.3X8; Manufacturer: Rubycon; ESR (Equivalent Series Resistance): 700mOhm @ 100kHz; Lifetime @ Temp.: 2000 Hrs @ 125°C; Polarization: Polar; Ripple Current @ High Frequency: 200mA @ 100kHz; Ripple Current @ Low Frequency: 100mA @ 120Hz; Surface Mount Land Size: 0.260" L x 0.260" W (6.60mm x 6.60mm); Applications: Automotive; Capacitance: 47µF; ComponentLink1Description: Datasheet; ComponentLink1URL: http://www.rubycon.co.jp/en/catalog/e_pdfs/aluminum/e_THV.pdf; ComponentLink2Description: DigiKey Link; ComponentLink2URL: http://digikey.com/product-detail/en/rubycon/25THV47M6.3X8/1189-2048-1-ND/3986967; Device Package: Radial, Can - SMD; Height - Seated (Max): 0.315" (8.00mm); LastUpdated: 9/2/2020 1:25:38 AM; Lifecycle Status: Active; Minimum Order: 1; Mounting Type: Surface Mount; Operating Temperature: -40°C ~ 125°C; Package / Case: Radial, Can - SMD; Packaging: TapeAndReel; PartId: 8370; Part Status: Active; Price: 0.17; Ratings: AEC-Q200; Series: THV; Size / Dimension: 0.248" Dia (6.30mm); Supplier 1: DigiKey; Supplier Part Number 1: 1189-2048-1-ND; Tolerance: ±20%; Value: 47µF; Voltage - Rated: 25V
footprint CAP ALSMD 6.6MM H8.0MM
pins: 1, 2

## 25THV100M8X10.5
designator C?, comment 100µF
CAP ALUM 100UF 20% 25V SMD; Part Number: 25THV100M8X10.5; Manufacturer: Rubycon; ESR (Equivalent Series Resistance): 300mOhm @ 100kHz; Lifetime @ Temp.: 3000 Hrs @ 125°C; Polarization: Polar; Ripple Current @ High Frequency: 300mA @ 100kHz; Ripple Current @ Low Frequency: 150mA @ 120Hz; Surface Mount Land Size: 0.327" L x 0.327" W (8.30mm x 8.30mm); Applications: Automotive; Capacitance: 100µF; ComponentLink1Description: Datasheet; ComponentLink1URL: http://www.rubycon.co.jp/en/catalog/e_pdfs/aluminum/e_THV.pdf; ComponentLink2Description: DigiKey Link; ComponentLink2URL: http://digikey.com/product-detail/en/rubycon/25THV100M8X10.5/1189-2049-1-ND/3986968; Device Package: Radial, Can - SMD; Height - Seated (Max): 0.413" (10.50mm); LastUpdated: 9/2/2020 1:25:14 AM; Lifecycle Status: Active; Minimum Order: 1; Mounting Type: Surface Mount; Operating Temperature: -40°C ~ 125°C; Package / Case: Radial, Can - SMD; Packaging: TapeAndReel; PartId: 7728; Part Status: Active; Price: 0.22; Ratings: AEC-Q200; Series: THV; Size / Dimension: 0.315" Dia (8.00mm); Supplier 1: DigiKey; Supplier Part Number 1: 1189-2049-1-ND; Tolerance: ±20%; Value: 100µF; Voltage - Rated: 25V
footprint CAP ALSMD 8.3MM H10.5MM
pins: 1, 2

## 25THV220M8X10.5
designator C?, comment 220µF
CAP ALUM 220UF 20% 25V SMD; Part Number: 25THV220M8X10.5; Manufacturer: Rubycon; ESR (Equivalent Series Resistance): 300mOhm @ 100kHz; Lifetime @ Temp.: 3000 Hrs @ 125°C; Polarization: Polar; Ripple Current @ High Frequency: 300mA @ 100kHz; Ripple Current @ Low Frequency: 180mA @ 120Hz; Surface Mount Land Size: 0.327" L x 0.327" W (8.30mm x 8.30mm); Applications: Automotive; Capacitance: 220µF; ComponentLink1Description: Datasheet; ComponentLink1URL: http://www.rubycon.co.jp/en/catalog/e_pdfs/aluminum/e_THV.pdf; ComponentLink2Description: DigiKey Link; ComponentLink2URL: http://digikey.com/product-detail/en/rubycon/25THV220M8X10.5/1189-2050-1-ND/3986969; Device Package: Radial, Can - SMD; Height - Seated (Max): 0.413" (10.50mm); LastUpdated: 9/2/2020 1:25:15 AM; Lifecycle Status: Active; Minimum Order: 1; Mounting Type: Surface Mount; Operating Temperature: -40°C ~ 125°C; Package / Case: Radial, Can - SMD; Packaging: TapeAndReel; PartId: 7598; Part Status: Active; Price: 0.22; Ratings: AEC-Q200; Series: THV; Size / Dimension: 0.315" Dia (8.00mm); Supplier 1: DigiKey; Supplier Part Number 1: 1189-2050-1-ND; Tolerance: ±20%; Value: 220µF; Voltage - Rated: 25V
footprint CAP ALSMD 8.3MM H10.5MM
pins: 1, 2

## 25TKV100M6.3X8
designator C?, comment 100µF
CAP ALUM 100UF 20% 25V SMD; Part Number: 25TKV100M6.3X8; Manufacturer: Rubycon; ESR (Equivalent Series Resistance): 160 mohm @ 100kHz; Lifetime @ Temp.: 2000 Hrs @ 105°C; Polarization: Polar; Ripple Current @ High Frequency: 600mA @ 100kHz; Ripple Current @ Low Frequency: 264mA @ 120Hz; Surface Mount Land Size: 0.260" L x 0.260" W (6.60mm x 6.60mm); Applications: Automotive; Capacitance: 100µF; ComponentLink1Description: Datasheet; ComponentLink1URL: http://www.rubycon.co.jp/en/catalog/e_pdfs/aluminum/e_TKV.pdf; ComponentLink2Description: DigiKey Link; ComponentLink2URL: http://digikey.com/product-detail/en/rubycon/25TKV100M6.3X8/1189-4135-1-ND/9083591; Device Package: Radial, Can - SMD; Height - Seated (Max): 0.315" (8.00mm); LastUpdated: 9/2/2020 1:25:38 AM; Lifecycle Status: Active; Minimum Order: 1; Mounting Type: Surface Mount; Operating Temperature: -55°C ~ 105°C; Package / Case: Radial, Can - SMD; Packaging: TapeAndReel; PartId: 8434; Part Status: Active; Price: 0.23; Ratings: AEC-Q200; Series: TKV; Size / Dimension: 0.248" Dia (6.30mm); Supplier 1: DigiKey; Supplier Part Number 1: 1189-4135-1-ND; Tolerance: ±20%; Value: 100µF; Voltage - Rated: 25V
footprint CAP ALSMD 6.6MM H8.0MM
pins: 1, 2

## 25TKV220M8X10.5
designator C?, comment 220µF
CAP ALUM 220UF 20% 25V SMD; Part Number: 25TKV220M8X10.5; Manufacturer: Rubycon; ESR (Equivalent Series Resistance): 80mOhm @ 100kHz; Lifetime @ Temp.: 2000 Hrs @ 105°C; Polarization: Polar; Ripple Current @ High Frequency: 850mA @ 100kHz; Ripple Current @ Low Frequency: 510mA @ 120Hz; Surface Mount Land Size: 0.327" L x 0.327" W (8.30mm x 8.30mm); Applications: Automotive; Capacitance: 220µF; ComponentLink1Description: Datasheet; ComponentLink1URL: http://www.rubycon.co.jp/en/catalog/e_pdfs/aluminum/e_TKV.pdf; ComponentLink2Description: DigiKey Link; ComponentLink2URL: http://digikey.com/product-detail/en/rubycon/25TKV220M8X10.5/1189-2070-1-ND/3986989; Device Package: Radial, Can - SMD; Height - Seated (Max): 0.413" (10.50mm); LastUpdated: 9/2/2020 1:25:15 AM; Lifecycle Status: Active; Minimum Order: 1; Mounting Type: Surface Mount; Operating Temperature: -55°C ~ 105°C; Package / Case: Radial, Can - SMD; Packaging: TapeAndReel; PartId: 7587; Part Status: Active; Price: 0.36; Ratings: AEC-Q200; Series: TKV; Size / Dimension: 0.315" Dia (8.00mm); Supplier 1: DigiKey; Supplier Part Number 1: 1189-2070-1-ND; Tolerance: ±20%; Value: 220µF; Voltage - Rated: 25V
footprint CAP ALSMD 8.3MM H10.5MM
pins: 1, 2

## 25TKV330M8X10.5
designator C?, comment 330µF
CAP ALUM 330UF 20% 25V SMD; Part Number: 25TKV330M8X10.5; Manufacturer: Rubycon; ESR (Equivalent Series Resistance): 80mOhm @ 100kHz; Lifetime @ Temp.: 2000 Hrs @ 105°C; Polarization: Polar; Ripple Current @ High Frequency: 850mA @ 100kHz; Ripple Current @ Low Frequency: 510mA @ 120Hz; Surface Mount Land Size: 0.327" L x 0.327" W (8.30mm x 8.30mm); Applications: Automotive; Capacitance: 330µF; ComponentLink1Description: Datasheet; ComponentLink1URL: http://www.rubycon.co.jp/en/catalog/e_pdfs/aluminum/e_TKV.pdf; ComponentLink2Description: DigiKey Link; ComponentLink2URL: http://digikey.com/product-detail/en/rubycon/25TKV330M8X10.5/1189-2071-1-ND/3986990; Device Package: Radial, Can - SMD; Height - Seated (Max): 0.413" (10.50mm); LastUpdated: 9/2/2020 1:25:14 AM; Lifecycle Status: Active; Minimum Order: 1; Mounting Type: Surface Mount; Operating Temperature: -55°C ~ 105°C; Package / Case: Radial, Can - SMD; Packaging: TapeAndReel; PartId: 7699; Part Status: Active; Price: 0.36; Ratings: AEC-Q200; Series: TKV; Size / Dimension: 0.315" Dia (8.00mm); Supplier 1: DigiKey; Supplier Part Number 1: 1189-2071-1-ND; Tolerance: ±20%; Value: 330µF; Voltage - Rated: 25V
footprint CAP ALSMD 8.3MM H10.5MM
pins: 1, 2

## 25TLV220M8X10.5
designator C?, comment 220µF
CAP ALUM 220UF 20% 25V SMD; Part Number: 25TLV220M8X10.5; Manufacturer: Rubycon; Impedance: 160 mOhms; Lifetime @ Temp.: 5000 Hrs @ 105°C; Polarization: Polar; Ripple Current @ High Frequency: 600mA @ 100kHz; Ripple Current @ Low Frequency: 360mA @ 120Hz; Surface Mount Land Size: 0.327" L x 0.327" W (8.30mm x 8.30mm); Applications: Automotive; Capacitance: 220µF; ComponentLink1Description: Datasheet; ComponentLink1URL: http://www.rubycon.co.jp/en/catalog/e_pdfs/aluminum/e_TLV.pdf; ComponentLink2Description: DigiKey Link; ComponentLink2URL: http://digikey.com/product-detail/en/rubycon/25TLV220M8X10.5/1189-2095-1-ND/3987014; Device Package: Radial, Can - SMD; Height - Seated (Max): 0.413" (10.50mm); LastUpdated: 9/2/2020 1:25:16 AM; Lifecycle Status: Active; Minimum Order: 1; Mounting Type: Surface Mount; Operating Temperature: -55°C ~ 105°C; Package / Case: Radial, Can - SMD; Packaging: TapeAndReel; PartId: 7467; Part Status: Active; Price: 0.25; Ratings: AEC-Q200; Series: TLV; Size / Dimension: 0.315" Dia (8.00mm); Supplier 1: DigiKey; Supplier Part Number 1: 1189-2095-1-ND; Tolerance: ±20%; Value: 220µF; Voltage - Rated: 25V
footprint CAP ALSMD 8.3MM H10.5MM
pins: 1, 2

## 25TLV330M8X10.5
designator C?, comment 330µF
CAP ALUM 330UF 20% 25V SMD; Part Number: 25TLV330M8X10.5; Manufacturer: Rubycon; Impedance: 160 mOhms; Lifetime @ Temp.: 5000 Hrs @ 105°C; Polarization: Polar; Ripple Current @ High Frequency: 600mA @ 100kHz; Ripple Current @ Low Frequency: 360mA @ 120Hz; Surface Mount Land Size: 0.327" L x 0.327" W (8.30mm x 8.30mm); Applications: Automotive; Capacitance: 330µF; ComponentLink1Description: Datasheet; ComponentLink1URL: http://www.rubycon.co.jp/en/catalog/e_pdfs/aluminum/e_TLV.pdf; ComponentLink2Description: DigiKey Link; ComponentLink2URL: http://digikey.com/product-detail/en/rubycon/25TLV330M8X10.5/1189-2096-1-ND/3987015; Device Package: Radial, Can - SMD; Height - Seated (Max): 0.413" (10.50mm); LastUpdated: 9/2/2020 1:25:15 AM; Lifecycle Status: Active; Minimum Order: 1; Mounting Type: Surface Mount; Operating Temperature: -55°C ~ 105°C; Package / Case: Radial, Can - SMD; Packaging: TapeAndReel; PartId: 7519; Part Status: Active; Price: 0.27; Ratings: AEC-Q200; Series: TLV; Size / Dimension: 0.315" Dia (8.00mm); Supplier 1: DigiKey; Supplier Part Number 1: 1189-2096-1-ND; Tolerance: ±20%; Value: 330µF; Voltage - Rated: 25V
footprint CAP ALSMD 8.3MM H10.5MM
pins: 1, 2

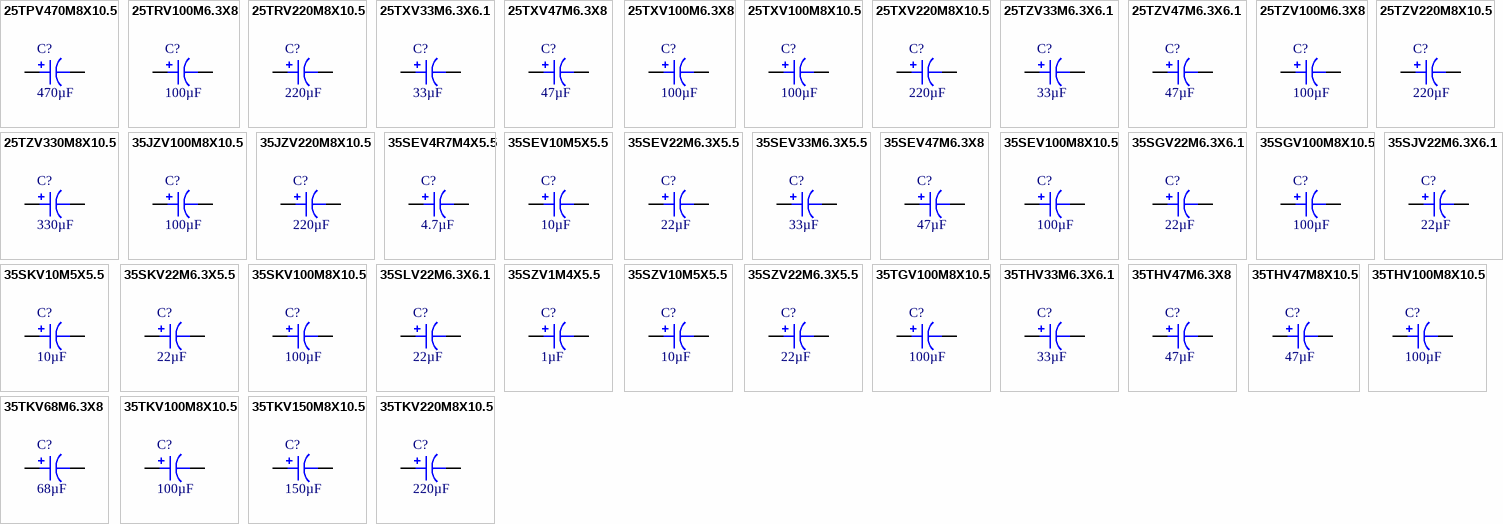
[diagram p3: symbols 25TPV470M8X10.5 to 35TKV220M8X10.5]

## 25TPV470M8X10.5
designator C?, comment 470µF
CAP ALUM 470UF 20% 25V SMD; Part Number: 25TPV470M8X10.5; Manufacturer: Rubycon; ESR (Equivalent Series Resistance): 80mOhm @ 100kHz; Lifetime @ Temp.: 2000 Hrs @ 105°C; Polarization: Polar; Ripple Current @ High Frequency: 850mA @ 100kHz; Ripple Current @ Low Frequency: 510mA @ 120Hz; Surface Mount Land Size: 0.327" L x 0.327" W (8.30mm x 8.30mm); Applications: Automotive; Capacitance: 470µF; ComponentLink1Description: Datasheet; ComponentLink1URL: http://www.rubycon.co.jp/en/catalog/e_pdfs/aluminum/e_TPV.pdf; ComponentLink2Description: DigiKey Link; ComponentLink2URL: http://digikey.com/product-detail/en/rubycon/25TPV470M8X10.5/1189-4137-1-ND/9083593; Device Package: Radial, Can - SMD; Height - Seated (Max): 0.413" (10.50mm); LastUpdated: 9/2/2020 1:25:13 AM; Lifecycle Status: Active; Minimum Order: 1; Mounting Type: Surface Mount; Operating Temperature: -55°C ~ 105°C; Package / Case: Radial, Can - SMD; Packaging: TapeAndReel; PartId: 7752; Part Status: Active; Price: 0.42; Ratings: AEC-Q200; Series: TPV; Size / Dimension: 0.315" Dia (8.00mm); Supplier 1: DigiKey; Supplier Part Number 1: 1189-4137-1-ND; Tolerance: ±20%; Value: 470µF; Voltage - Rated: 25V
footprint CAP ALSMD 8.3MM H10.5MM
pins: 1, 2